# Altium schematic symbol library GanInverter.SchLib: 10 symbols
Pins are listed as number, name and electrical type; pins without a type are passive.

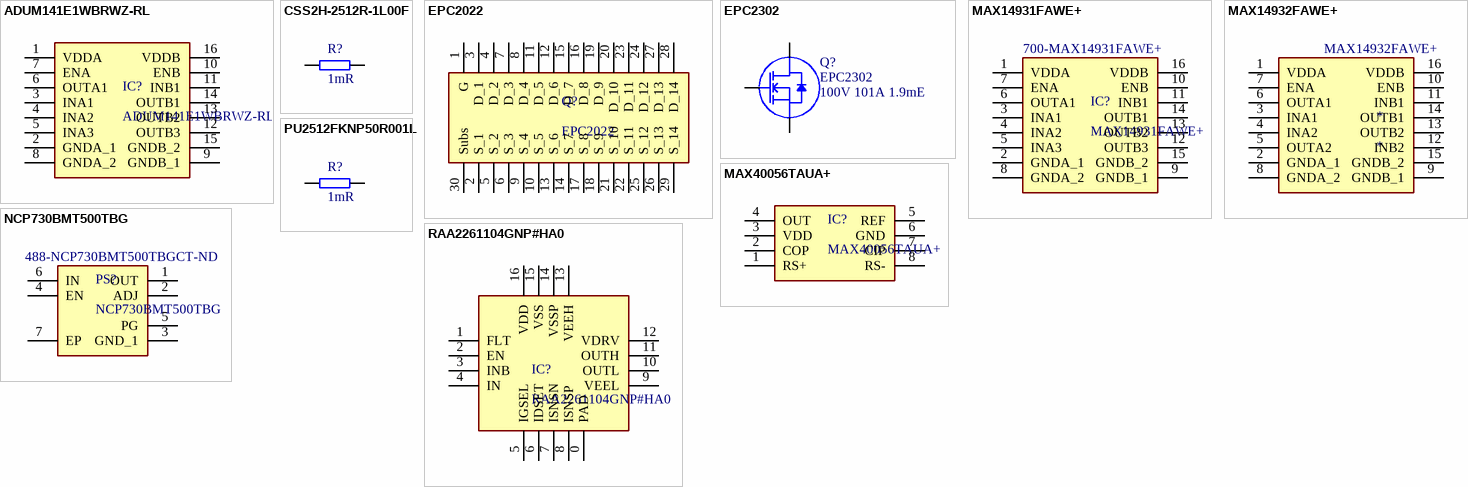
[diagram p0: symbols ADUM141E1WBRWZ-RL to RAA2261104GNP#HA0]

## ADUM141E1WBRWZ-RL
designator IC?
Digital Isolator CMOS 4-CH 150Mbps Automotive 16-Pin SOIC W T/R; Manufacturer: Analog Devices; Manufacturer Part Number: ADUM141E1WBRWZ-RL; RoHS: Yes; Category: Interface ICs; Number of Pins: 16; Lead Free: Contains Lead; RoHS Compliant: Yes; ComponentLink1URL: http://www.analog.com/media/en/technical-documentation/data-sheets/ADuM140D_140E_141D_141E_142D_142E.pdf?src-supplier=Digi-Key; ComponentLink1Description: http://www.analog.com/media/en/technical-documentation/data-sheets/ADuM140D_140E_141D_141E_142D_142E.pdf?src-supplier=Digi-Key; ComponentLink2URL: https://www.analog.com/media/en/technical-documentation/data-sheets/ADuM140D_140E_141D_141E_142D_142E.pdf?src-supplier=Digi-Key; ComponentLink2Description: https://www.analog.com/media/en/technical-documentation/data-sheets/ADuM140D_140E_141D_141E_142D_142E.pdf?src-supplier=Digi-Key; Supplier 1: Mouser
footprint SOIC-16 (SOIC, 16-Leads, Body 10.5x7.6mm, Pitch 1.27mm, IPC Low Density)
pins: 1 VDDA, 2 GNDA_1, 3 INA1, 4 INA2, 5 INA3, 6 OUTA1, 7 ENA, 8 GNDA_2, 9 GNDB_1, 10 ENB, 11 INB1, 12 OUTB3, 13 OUTB2, 14 OUTB1, 15 GNDB_2, 16 VDDB

## CSS2H-2512R-1L00F
designator R?, comment 1mR
Shunt 0.001R, 5W, 1%, 50ppm/°C; Manufacturer: Bourns; Manufacturer Part Number: CSS2H-2512R-1L00F; RoHS: Yes; Category: Shunt Resistor 1mR; Stock 1: 8389; Pricing 1: 5=0,93000, 25=0,75600, 50=0,68900, 100=0,59700, 250=0,50400, 500=0,44200 (USD); Case/Package: 2512; Case Code (Metric): 6432; Case Code (Imperial): 2512; Min Operating Temperature: -55°C; Max Operating Temperature: 170°C; Packaging: Cut Tape; value: 1mR; Resistor Type: Metal Element,Metal Strip; Temperature Coefficient: 50ppm/°C; Number of Terminations: 2; Tolerance: 1%; Max Power Dissipation: 5W; Features: Moisture Resistant; Power Rating: 5W; Length: 0.25inch; Width: 0.12inch; Height: 0.02inch; RoHS Compliant: Yes; REACH SVHC: No SVHC; ComponentLink1URL: http://www.farnell.com/datasheets/2058210.pdf?src-supplier=Farnell; ComponentLink1Description: http://www.farnell.com/datasheets/2058210.pdf?src-supplier=Farnell; ComponentLink2URL: http://www.mouser.com/ds/2/54/ss2h-2512-935127.pdf?src-supplier=Mouser; ComponentLink2Description: http://www.mouser.com/ds/2/54/ss2h-2512-935127.pdf?src-supplier=Mouser; ComponentLink3URL: http://www.farnell.com/datasheets/2058210.pdf?src-supplier=Newark; ComponentLink3Description: http://www.farnell.com/datasheets/2058210.pdf?src-supplier=Newark; ComponentLink4URL: https://www.bourns.com/docs/Product-Datasheets/css2h-2512.pdf?src-supplier=Digi-Key; ComponentLink4Description: https://www.bourns.com/docs/Product-Datasheets/css2h-2512.pdf?src-supplier=Digi-Key; ComponentLink5URL: http://www.farnell.com/datasheets/2058210.pdf?src-supplier=Element14; ComponentLink5Description: http://www.farnell.com/datasheets/2058210.pdf?src-supplier=Element14; ComponentLink6URL: http://www.bourns.com/docs/Product-Datasheets/css2h-2512.pdf?src-supplier=Digi-Key; ComponentLink6Description: http://www.bourns.com/docs/Product-Datasheets/css2h-2512.pdf?src-supplier=Digi-Key; Supplier 1: Mouser
footprint CSS2H-2512-1862180
footprint R_2512
pins: 1, 2

## EPC2022
designator Q?
Ganfet N-ch 100V 90A Die; Manufacturer: EPC; Rds On Max: 3.2mR; Input Capacitance: 1.5nF; Manufacturer Part Number: EPC2022; RoHS: Yes; Stock 1: 8337; Pricing 1: 1=8,46000, 10=7,63900, 100=6,32430, 500=5,50716 (USD); Mount: Surface Mount; Packaging: Cut Tape; Drain to Source Voltage (Vdss): 100V; Continuous Drain Current (ID): 90A; ComponentLink1URL: http://epc-co.com/epc/Portals/0/epc/documents/datasheets/EPC2022_datasheet.pdf?src-supplier=Digi-Key; ComponentLink1Description: http://epc-co.com/epc/Portals/0/epc/documents/datasheets/EPC2022_datasheet.pdf?src-supplier=Digi-Key; Manufacturer 1: EPC; Supplier 1: Digi-Key
footprint EPC2022
pins: 1 G, 2 S_1, 3 D_1, 4 D_2, 5 S_2, 6 S_3, 7 D_3, 8 D_4, 9 S_4, 10 S_5, 11 D_5, 12 D_6, 13 S_6, 14 S_7, 15 D_7, 16 D_8, 17 S_8, 18 S_9, 19 D_9, 20 D_10, 21 S_10, 22 S_11, 23 D_11, 24 D_12, 25 S_12, 26 S_13, 27 D_13, 28 D_14, 29 S_14, 30 Subs

## EPC2302
designator Q?
100V 101A 1.9mE; MFG: EPC; Name: Bellini; Part Number: EPC2302; MFGPN: EPC2302; EPC Part Number: EPC2302; QSGdescript: 100V 101A 1.9mE; Status: Released; Supplier 1: Digi-Key; Supplier Part Number 1: 917-EPC2302TR-ND; Supplier 2: Digi-Key; Supplier Part Number 2: 917-EPC2302CT-ND; Supplier 3: Digi-Key; Supplier Part Number 3: 917-EPC2302DKR-ND; SchDescript: 100V 101A 1.9mE
footprint D0606F_100V
pins: 1 G, 2 S, 3 D, 4 S, 5 D, 6 S, 7 D

## MAX14931FAWE+
designator IC?  Supplier Part Number 1: 700-MAX14931FAWE+
Digital Isolator 16-Pin SOIC W Tube; Manufacturer: Maxim; Number of Channels: 4; Channel Type: Unidirectional; Data Rate: 150Mbps; Propagation Delay: 7.4ns; Isolated Power: No; Pulse Width Distortion (PWD): 1ns; Manufacturer Part Number: MAX14931FAWE+; RoHS: Yes; Category: Interface ICs; Pricing 1: 138=3,67000 (EUR); Case/Package: SOIC; Min Operating Temperature: -40°C; Max Operating Temperature: 125°C; Packaging: Rail/Tube; Type: General Purpose; RoHS Compliant: Yes; ComponentLink1URL: https://datasheets.maximintegrated.com/en/ds/MAX14130-MAX14932.pdf?src-supplier=Digi-Key; ComponentLink1Description: https://datasheets.maximintegrated.com/en/ds/MAX14130-MAX14932.pdf?src-supplier=Digi-Key; Supplier 1: Mouser
footprint SOIC-16 (SOIC, 16-Leads, Body 10.5x7.6mm, Pitch 1.27mm, IPC Low Density)
pins: 1 VDDA, 2 GNDA_1, 3 INA1, 4 INA2, 5 INA3, 6 OUTA1, 7 ENA, 8 GNDA_2, 9 GNDB_1, 10 ENB, 11 INB1, 12 OUTB3, 13 OUTB2, 14 OUTB1, 15 GNDB_2, 16 VDDB

## MAX14932FAWE+
designator *
Digital Isolator 16-Pin SOIC W Tube; Supplier 1: Mouser; Supplier Part Number 1: 700-MAX14931FAWE+
footprint SOIC MAX14932FAWE+ (SOIC, 16-Leads, Body 10.5x7.6mm, Pitch 1.27mm, IPC Low Density)
pins: 1 VDDA, 2 GNDA_1, 3 INA1, 4 INA2, 5 OUTA2, 6 OUTA1, 7 ENA, 8 GNDA_2, 9 GNDB_1, 10 ENB, 11 INB1, 12 INB2, 13 OUTB2, 14 OUTB1, 15 GNDB_2, 16 VDDB

## MAX40056TAUA+
designator IC?
Current Sense Amplifier, -0.1V - 65V CMV, 20 V/V, bidirectional; Manufacturer: Maxim; Manufacturer Part Number: MAX40056TAUA+; RoHS: Yes; Category: Amplifiers - Op Amps, Buffer, Instrumentation; Stock 1: 4455; Pricing 1: 1=3,47000, 10=3,12000, 50=2,94000, 100=2,55000, 1000=1,96000, 10000=1,89000 (USD); Supplier 1: Mouser
footprint uMAX-8
pins: 1 RS+, 2 COP, 3 VDD, 4 OUT, 5 REF, 6 GND, 7 CIP, 8 RS-

## NCP730BMT500TBG
designator PS?  Supplier Part Number 1: 488-NCP730BMT500TBGCT-ND
LDO Regulator, 150 mA, 38 V, 1 uA IQ, with PG 5V0 HZ, WDFN6 2x2; Manufacturer: ON Semiconductor; Manufacturer Part Number: NCP730BMT500TBG; RoHS: Yes; Category: Voltage Regulators - Linear; Stock 1: 2129; Pricing 1: 1=1,12000, 10=1,00200, 25=0,95080, 100=0,78090, 250=0,72996, 500=0,64508, 1000=0,50928 (USD); Supplier 1: Digi-Key
footprint SON65P200X200X80-7N
pins: 1 OUT, 2 ADJ, 3 GND_1, 4 EN, 5 PG, 6 IN, 7 EP

## PU2512FKNP50R001L
designator R?, comment 1mR
Shunt 0.001R, 5W, 1%, 50ppm/°C; Manufacturer: Yageo; Manufacturer Part Number: PU2512FKNP50R001L; Supplier 1: Mouser; RoHS: Yes; Category: Chip SMD Resistors; Stock 1: 2359; Pricing 1: 1=1,14000, 10=1,02000, 50=0,83000, 100=0,71900, 1000=0,42500, 10000=0,42400 (USD); Value: 1mR
footprint R_2512
pins: 1, 2

## RAA2261104GNP#HA0
designator IC?
Low -Side GaN FET-Driver, 6,5V - 18V; Manufacturer: Renesas; Manufacturer Part Number: RAA2261104GNP#HA0; RoHS: No; Pricing 1: 75=3,32000, 100=2,88000, 250=2,42000, 500=2,34000 (USD); Supplier 1: Digi-Key
footprint RAA2261104GNP#HA0
pins: 0 PAD, 1 FLT, 2 EN, 3 INB, 4 IN, 5 IGSEL, 6 IDSET, 7 ISNSN, 8 ISNSP, 9 VEEL, 10 OUTL, 11 OUTH, 12 VDRV, 13 VEEH, 14 VSSP, 15 VSS, 16 VDD